# EAGLE library part AP255X (library custom)
USB Switch Current Limiting
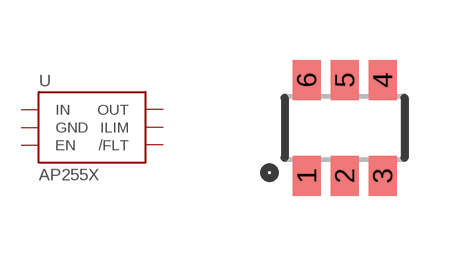
[diagram p87: symbol with the pads of SOT23-6; footprint SOT23-6]

Designator prefix U

## AP255X  [SOT23-6]
1  IN
2  GND
3  EN
4  /FLT
5  ILIM
6  OUT

## Footprint SOT23-6 (pad centres in mm)
smd 0.7 x 1: 1 -0.95,-1.2; 2 0,-1.2; 3 0.95,-1.2; 4 0.95,1.2; 5 0,1.2; 6 -0.95,1.2